# Altium integrated library HW-09-11-F-D-695-SM.IntLib: 1 symbol
Pins are listed as number, name and electrical type; pins without a type are passive.

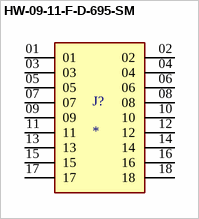
[diagram p0: symbol HW-09-11-F-D-695-SM]

## HW-09-11-F-D-695-SM
designator J?
MP: HW-09-11-F-D-695-SM; Package: None; Price: None; Value: *; Availability: Unavailable
footprint SAMTEC_HW-09-11-F-D-695-SM
pins: 01, 02, 03, 04, 05, 06, 07, 08, 09, 10, 11, 12, 13, 14, 15, 16, 17, 18